# Altium footprint library Linear Technology Power Management LDO Linear Regulators.PcbLib: 77 footprints (part 3 of 5)
Each footprint in its own frame and in the unit in brackets; x right, y up, seen from the top. Pads: shape width x height; smd on the part's side, far side on the other; paste and mask are expansions set on the pad; w line width, h text height; cw(c..) or ccw(c..) is an arc to the next point about the centre after c.
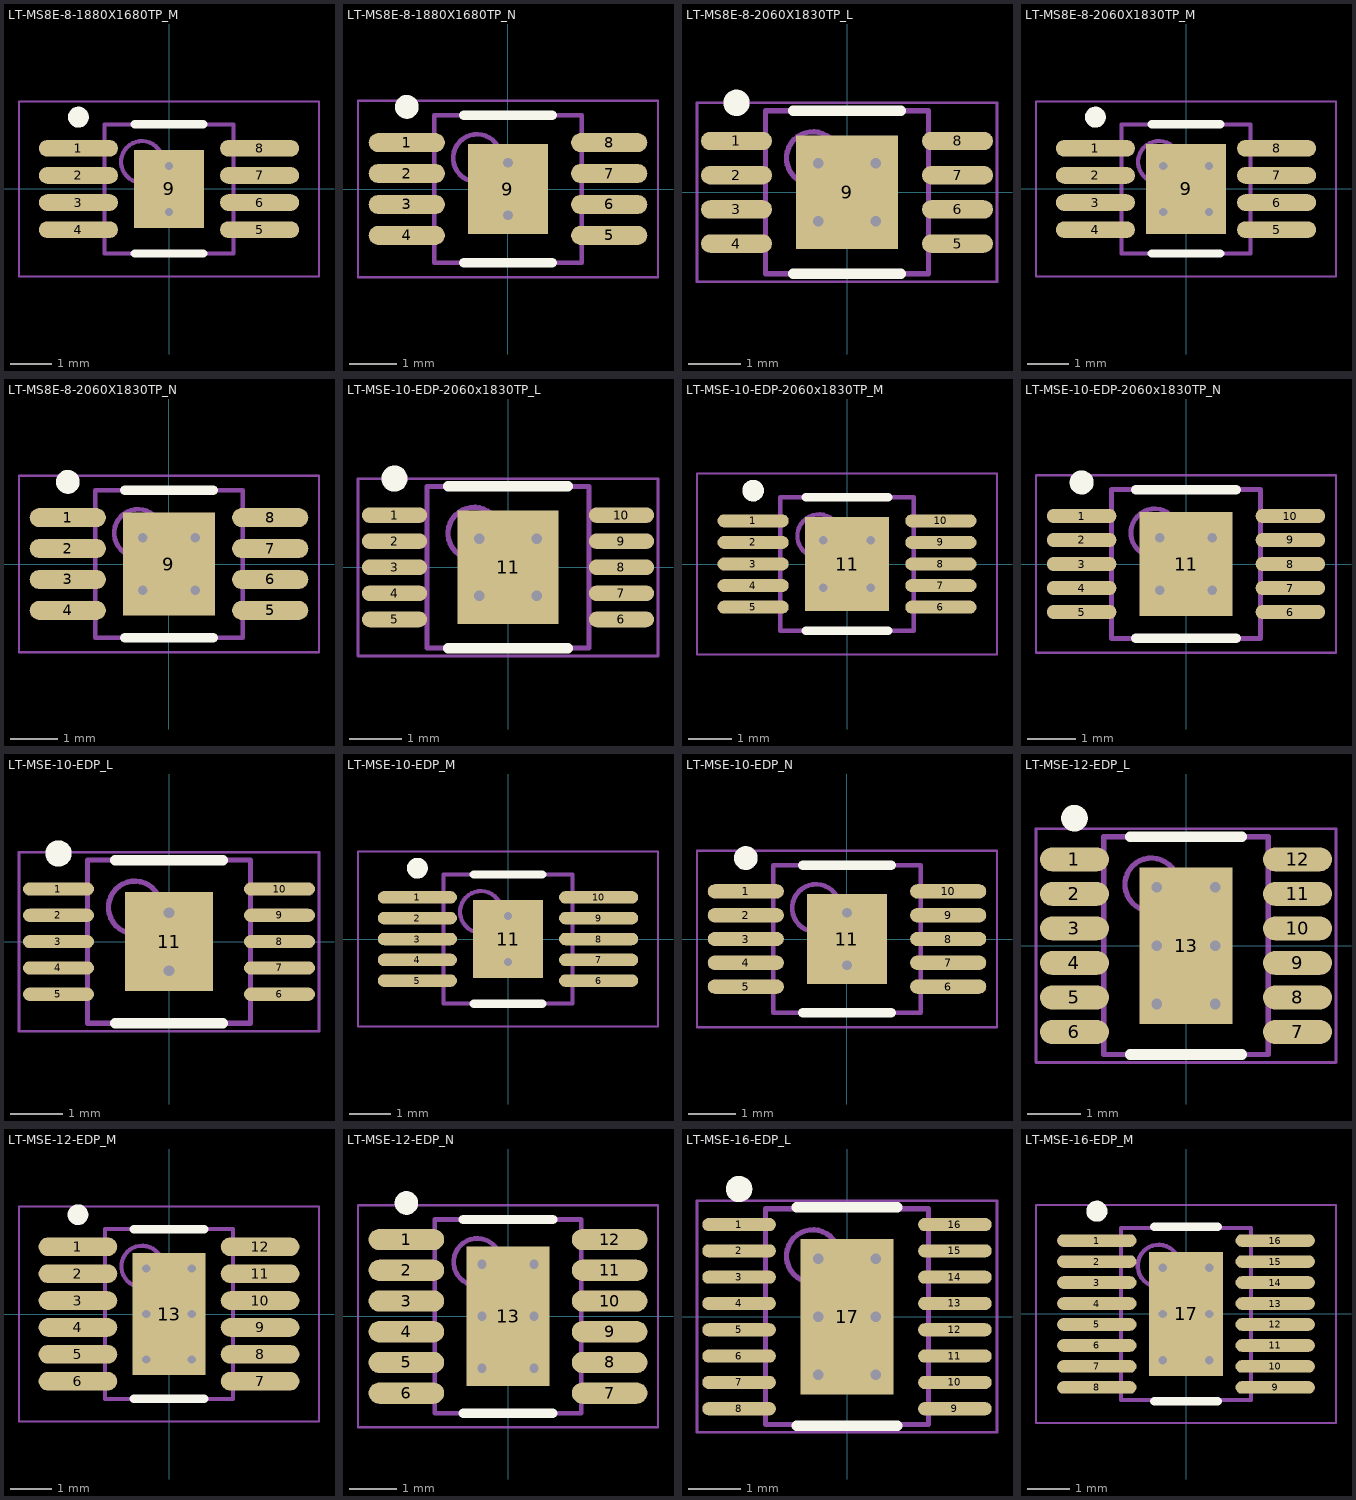
[diagram p2: the footprints below, top view; thin cyan lines are the x and y axes]

## LT-MS8E-8-1880X1680TP_M [mm] "SOP, 8-Leads, Body 3x3mm, Pitch 0.65mm, Thermal Pad 1.88x1.68mm, IPC Low Density"
height 1.1
pads (9):
  oval 1.9x0.4 smd: 1(-2.175,0.975) 2(-2.175,0.325) 3(-2.175,-0.325) 4(-2.175,-0.975) 5(2.175,-0.975) 6(2.175,-0.325) 7(2.175,0.325) 8(2.175,0.975)
  rect 1.68x1.88 smd: 9(0,0)
via 0,0.55 diameter 0.5 hole 0.2
via 0,-0.55 diameter 0.5 hole 0.2
Top Overlay:
  circle w0.25: c-2.175,1.725 r0.125
  lines w0.2: -0.825,-1.55 0.825,-1.55 ; -0.825,1.55 0.825,1.55
Mechanical 13:
  circle w0.1: c-0.65,0.65 r0.5
  lines w0.1: -1.55,-1.55 -1.55,1.55 1.55,1.55 1.55,-1.55 -1.55,-1.55
Mechanical 15:
  lines w0.05: -3.6,-2.1 -3.6,2.1 3.6,2.1 3.6,-2.1 -3.6,-2.1
  lines w0.1: -0.5,0 0.5,0 ; 0,-0.5 0,0.5
3D body: height 1.1, standoff 0.05, extent -1.55,-1.55 1.55,1.55

## LT-MS8E-8-1880X1680TP_N [mm] "SOP, 8-Leads, Body 3x3mm, Pitch 0.65mm, Thermal Pad 1.88x1.68mm, IPC Medium Density"
height 1.1
pads (9):
  oval 1.6x0.4 smd: 1(-2.125,0.975) 2(-2.125,0.325) 3(-2.125,-0.325) 4(-2.125,-0.975) 5(2.125,-0.975) 6(2.125,-0.325) 7(2.125,0.325) 8(2.125,0.975)
  rect 1.68x1.88 smd: 9(0,0)
via 0,0.55 diameter 0.5 hole 0.2
via 0,-0.55 diameter 0.5 hole 0.2
Top Overlay:
  circle w0.25: c-2.125,1.725 r0.125
  lines w0.2: -0.925,-1.55 0.925,-1.55 ; -0.925,1.55 0.925,1.55
Mechanical 13:
  circle w0.1: c-0.65,0.65 r0.5
  lines w0.1: -1.55,-1.55 -1.55,1.55 1.55,1.55 1.55,-1.55 -1.55,-1.55
Mechanical 15:
  lines w0.05: -3.15,-1.85 -3.15,1.85 3.15,1.85 3.15,-1.85 -3.15,-1.85
  lines w0.1: -0.5,0 0.5,0 ; 0,-0.5 0,0.5
3D body: height 1.1, standoff 0.05, extent -1.55,-1.55 1.55,1.55

## LT-MS8E-8-2060X1830TP_L [mm] "SOP, 8-Leads, Body 3x3mm, Pitch 0.65mm, Thermal Pad 2.162x1.932mm, IPC High Density"
height 1.1
pads (9):
  oval 1.35x0.35 smd: 1(-2.1,0.975) 2(-2.1,0.325) 3(-2.1,-0.325) 4(-2.1,-0.975) 5(2.1,-0.975) 6(2.1,-0.325) 7(2.1,0.325) 8(2.1,0.975)
  rect 1.932x2.162 smd: 9(0,0)
via 0.55,-0.55 diameter 0.5 hole 0.2
via -0.55,-0.55 diameter 0.5 hole 0.2
via 0.55,0.55 diameter 0.5 hole 0.2
via -0.55,0.55 diameter 0.5 hole 0.2
Top Overlay:
  circle w0.25: c-2.1,1.7 r0.125
  lines w0.2: -1.025,-1.55 1.025,-1.55 ; -1.025,1.55 1.025,1.55
Mechanical 13:
  circle w0.1: c-0.65,0.65 r0.5
  lines w0.1: -1.55,-1.55 1.55,-1.55 1.55,1.55 -1.55,1.55 -1.55,-1.55
Mechanical 15:
  lines w0.05: -2.85,-1.7 2.85,-1.7 2.85,1.7 -2.85,1.7 -2.85,-1.7
  lines w0.1: -0.5,0 0.5,0 ; 0,-0.5 0,0.5
3D body: height 1.1, standoff 0.05, extent -1.55,-1.55 1.55,1.55

## LT-MS8E-8-2060X1830TP_M [mm] "SOP, 8-Leads, Body 3x3mm, Pitch 0.65mm, Thermal Pad 2.162x1.932mm, IPC Low Density"
height 1.1
pads (9):
  oval 1.9x0.4 smd: 1(-2.175,0.975) 2(-2.175,0.325) 3(-2.175,-0.325) 4(-2.175,-0.975) 5(2.175,-0.975) 6(2.175,-0.325) 7(2.175,0.325) 8(2.175,0.975)
  rect 1.932x2.162 smd: 9(0,0)
via 0.55,-0.55 diameter 0.5 hole 0.2
via -0.55,-0.55 diameter 0.5 hole 0.2
via 0.55,0.55 diameter 0.5 hole 0.2
via -0.55,0.55 diameter 0.5 hole 0.2
Top Overlay:
  circle w0.25: c-2.175,1.725 r0.125
  lines w0.2: -0.825,-1.55 0.825,-1.55 ; -0.825,1.55 0.825,1.55
Mechanical 13:
  circle w0.1: c-0.65,0.65 r0.5
  lines w0.1: -1.55,-1.55 1.55,-1.55 1.55,1.55 -1.55,1.55 -1.55,-1.55
Mechanical 15:
  lines w0.05: -3.6,-2.1 3.6,-2.1 3.6,2.1 -3.6,2.1 -3.6,-2.1
  lines w0.1: -0.5,0 0.5,0 ; 0,-0.5 0,0.5
3D body: height 1.1, standoff 0.05, extent -1.55,-1.55 1.55,1.55

## LT-MS8E-8-2060X1830TP_N [mm] "SOP, 8-Leads, Body 3x3mm, Pitch 0.65mm, Thermal Pad 2.162x1.932mm, IPC Medium Density"
height 1.1
pads (9):
  oval 1.6x0.4 smd: 1(-2.125,0.975) 2(-2.125,0.325) 3(-2.125,-0.325) 4(-2.125,-0.975) 5(2.125,-0.975) 6(2.125,-0.325) 7(2.125,0.325) 8(2.125,0.975)
  rect 1.932x2.162 smd: 9(0,0)
via 0.55,-0.55 diameter 0.5 hole 0.2
via -0.55,-0.55 diameter 0.5 hole 0.2
via 0.55,0.55 diameter 0.5 hole 0.2
via -0.55,0.55 diameter 0.5 hole 0.2
Top Overlay:
  circle w0.25: c-2.125,1.725 r0.125
  lines w0.2: -0.925,-1.55 0.925,-1.55 ; -0.925,1.55 0.925,1.55
Mechanical 13:
  circle w0.1: c-0.65,0.65 r0.5
  lines w0.1: -1.55,-1.55 1.55,-1.55 1.55,1.55 -1.55,1.55 -1.55,-1.55
Mechanical 15:
  lines w0.05: -3.15,-1.85 3.15,-1.85 3.15,1.85 -3.15,1.85 -3.15,-1.85
  lines w0.1: -0.5,0 0.5,0 ; 0,-0.5 0,0.5
3D body: height 1.1, standoff 0.05, extent -1.55,-1.55 1.55,1.55

## LT-MSE-10-EDP-2060x1830TP_L [mm] "SOP, 10-Leads, Body 3.1x3.1mm, Pitch 0.5mm, Thermal Pad 2.17x1.94mm, IPC High Density"
height 1.1
pads (11):
  oval 1.25x0.3 smd: 1(-2.175,1) 2(-2.175,0.5) 3(-2.175,0) 4(-2.175,-0.5) 5(-2.175,-1) 6(2.175,-1) 7(2.175,-0.5) 8(2.175,0) 9(2.175,0.5) 10(2.175,1)
  rect 1.94x2.17 smd: 11(0,0)
via -0.55,0.55 diameter 0.5 hole 0.2
via 0.55,0.55 diameter 0.5 hole 0.2
via -0.55,-0.55 diameter 0.5 hole 0.2
via 0.55,-0.55 diameter 0.5 hole 0.2
Top Overlay:
  circle w0.25: c-2.175,1.7 r0.125
  lines w0.2: -1.15,-1.55 1.15,-1.55 ; -1.15,1.55 1.15,1.55
Mechanical 13:
  circle w0.1: c-0.65,0.65 r0.5
  lines w0.1: -1.55,-1.55 -1.55,1.55 1.55,1.55 1.55,-1.55 -1.55,-1.55
Mechanical 15:
  lines w0.05: -2.875,-1.7 -2.875,1.7 2.875,1.7 2.875,-1.7 -2.875,-1.7
  lines w0.1: -0.5,0 0.5,0 ; 0,-0.5 0,0.5
3D body: height 1.1, standoff 0.05, extent -1.55,-1.55 1.55,1.55

## LT-MSE-10-EDP-2060x1830TP_M [mm] "SOP, 10-Leads, Body 3.1x3.1mm, Pitch 0.5mm, Thermal Pad 2.17x1.94mm, IPC Low Density"
height 1.1
pads (11):
  oval 1.65x0.3 smd: 1(-2.175,1) 2(-2.175,0.5) 3(-2.175,0) 4(-2.175,-0.5) 5(-2.175,-1) 6(2.175,-1) 7(2.175,-0.5) 8(2.175,0) 9(2.175,0.5) 10(2.175,1)
  rect 1.94x2.17 smd: 11(0,0)
via 0.55,-0.55 diameter 0.5 hole 0.2
via -0.55,-0.55 diameter 0.5 hole 0.2
via 0.55,0.55 diameter 0.5 hole 0.2
via -0.55,0.55 diameter 0.5 hole 0.2
Top Overlay:
  circle w0.25: c-2.175,1.7 r0.125
  lines w0.2: -0.95,-1.55 0.95,-1.55 ; -0.95,1.55 0.95,1.55
Mechanical 13:
  circle w0.1: c-0.65,0.65 r0.5
  lines w0.1: -1.55,-1.55 1.55,-1.55 1.55,1.55 -1.55,1.55 -1.55,-1.55
Mechanical 15:
  lines w0.05: -3.475,-2.1 3.475,-2.1 3.475,2.1 -3.475,2.1 -3.475,-2.1
  lines w0.1: -0.5,0 0.5,0 ; 0,-0.5 0,0.5
3D body: height 1.1, standoff 0.05, extent -1.55,-1.55 1.55,1.55

## LT-MSE-10-EDP-2060x1830TP_N [mm] "SOP, 10-Leads, Body 3.1x3.1mm, Pitch 0.5mm, Thermal Pad 2.17x1.94mm, IPC Medium Density"
height 1.1
pads (11):
  oval 1.45x0.3 smd: 1(-2.175,1) 2(-2.175,0.5) 3(-2.175,0) 4(-2.175,-0.5) 5(-2.175,-1) 6(2.175,-1) 7(2.175,-0.5) 8(2.175,0) 9(2.175,0.5) 10(2.175,1)
  rect 1.94x2.17 smd: 11(0,0)
via -0.55,0.55 diameter 0.5 hole 0.2
via 0.55,0.55 diameter 0.5 hole 0.2
via -0.55,-0.55 diameter 0.5 hole 0.2
via 0.55,-0.55 diameter 0.5 hole 0.2
Top Overlay:
  circle w0.25: c-2.175,1.7 r0.125
  lines w0.2: -1.05,-1.55 1.05,-1.55 ; -1.05,1.55 1.05,1.55
Mechanical 13:
  circle w0.1: c-0.65,0.65 r0.5
  lines w0.1: -1.55,-1.55 -1.55,1.55 1.55,1.55 1.55,-1.55 -1.55,-1.55
Mechanical 15:
  lines w0.05: -3.125,-1.85 -3.125,1.85 3.125,1.85 3.125,-1.85 -3.125,-1.85
  lines w0.1: -0.5,0 0.5,0 ; 0,-0.5 0,0.5
3D body: height 1.1, standoff 0.05, extent -1.55,-1.55 1.55,1.55

## LT-MSE-10-EDP_L [mm] "SOP, 10-Leads, Body 3x3mm, Pitch 0.5mm, Thermal Pad 1.88x1.68mm, IPC High Density"
height 1.1
pads (11):
  oval 1.35x0.25 smd mask+0.082: 1(-2.1,1) 2(-2.1,0.5) 3(-2.1,0) 4(-2.1,-0.5) 5(-2.1,-1) 6(2.1,-1) 7(2.1,-0.5) 8(2.1,0) 9(2.1,0.5) 10(2.1,1)
  rect 1.68x1.88 smd mask+0.082: 11(0,0)
via 0,-0.55 diameter 0.5 hole 0.2
via 0,0.55 diameter 0.5 hole 0.2
Top Overlay:
  circle w0.25: c-2.1,1.675 r0.125
  lines w0.2: -1.025,-1.55 1.025,-1.55 ; -1.025,1.55 1.025,1.55
Mechanical 13:
  circle w0.1: c-0.65,0.65 r0.5
  lines w0.1: -1.55,-1.55 1.55,-1.55 1.55,1.55 -1.55,1.55 -1.55,-1.55
Mechanical 15:
  lines w0.05: -2.85,-1.7 2.85,-1.7 2.85,1.7 -2.85,1.7 -2.85,-1.7
  lines w0.1: -0.5,0 0.5,0 ; 0,-0.5 0,0.5
3D body: height 1.1, standoff 0.05, extent -1.55,-1.55 1.55,1.55

## LT-MSE-10-EDP_M [mm] "SOP, 10-Leads, Body 3x3mm, Pitch 0.5mm, Thermal Pad 1.88x1.68mm, IPC Low Density"
height 1.1
pads (11):
  oval 1.9x0.3 smd: 1(-2.175,1) 2(-2.175,0.5) 3(-2.175,0) 4(-2.175,-0.5) 5(-2.175,-1) 6(2.175,-1) 7(2.175,-0.5) 8(2.175,0) 9(2.175,0.5) 10(2.175,1)
  rect 1.68x1.88 smd: 11(0,0)
via 0,0.55 diameter 0.5 hole 0.2
via 0,-0.55 diameter 0.5 hole 0.2
Top Overlay:
  circle w0.25: c-2.175,1.7 r0.125
  lines w0.2: -0.825,-1.55 0.825,-1.55 ; -0.825,1.55 0.825,1.55
Mechanical 13:
  circle w0.1: c-0.65,0.65 r0.5
  lines w0.1: -1.55,-1.55 -1.55,1.55 1.55,1.55 1.55,-1.55 -1.55,-1.55
Mechanical 15:
  lines w0.05: -3.6,-2.1 -3.6,2.1 3.6,2.1 3.6,-2.1 -3.6,-2.1
  lines w0.1: -0.5,0 0.5,0 ; 0,-0.5 0,0.5
3D body: height 1.1, standoff 0.05, extent -1.55,-1.55 1.55,1.55

## LT-MSE-10-EDP_N [mm] "SOP, 10-Leads, Body 3x3mm, Pitch 0.5mm, Thermal Pad 1.88x1.68mm, IPC Medium Density"
height 1.1
pads (11):
  oval 1.6x0.3 smd: 1(-2.125,1) 2(-2.125,0.5) 3(-2.125,0) 4(-2.125,-0.5) 5(-2.125,-1) 6(2.125,-1) 7(2.125,-0.5) 8(2.125,0) 9(2.125,0.5) 10(2.125,1)
  rect 1.68x1.88 smd: 11(0,0)
via 0,-0.55 diameter 0.5 hole 0.2
via 0,0.55 diameter 0.5 hole 0.2
Top Overlay:
  circle w0.25: c-2.125,1.7 r0.125
  lines w0.2: -0.925,-1.55 0.925,-1.55 ; -0.925,1.55 0.925,1.55
Mechanical 13:
  circle w0.1: c-0.65,0.65 r0.5
  lines w0.1: -1.55,-1.55 1.55,-1.55 1.55,1.55 -1.55,1.55 -1.55,-1.55
Mechanical 15:
  lines w0.05: -3.15,-1.85 3.15,-1.85 3.15,1.85 -3.15,1.85 -3.15,-1.85
  lines w0.1: -0.5,0 0.5,0 ; 0,-0.5 0,0.5
3D body: height 1.1, standoff 0.05, extent -1.55,-1.55 1.55,1.55

## LT-MSE-12-EDP_L [mm] "SOP, 12-Leads, Body 4.039x3mm, Pitch 0.65mm, Thermal Pad 2.95x1.76mm, IPC High Density"
height 1.1
pads (13):
  oval 1.3x0.45 smd: 1(-2.1,1.625) 2(-2.1,0.975) 3(-2.1,0.325) 4(-2.1,-0.325) 5(-2.1,-0.975) 6(-2.1,-1.625) 7(2.1,-1.625) 8(2.1,-0.975) 9(2.1,-0.325) 10(2.1,0.325) 11(2.1,0.975) 12(2.1,1.625)
  rect 1.76x2.95 smd: 13(0,0)
via -0.55,1.1 diameter 0.5 hole 0.2
via 0.55,1.1 diameter 0.5 hole 0.2
via -0.55,0 diameter 0.5 hole 0.2
via 0.55,0 diameter 0.5 hole 0.2
via -0.55,-1.1 diameter 0.5 hole 0.2
via 0.55,-1.1 diameter 0.5 hole 0.2
Top Overlay:
  circle w0.25: c-2.1,2.4 r0.125
  lines w0.2: -1.05,-2.05 1.05,-2.05 ; -1.05,2.05 1.05,2.05
Mechanical 13:
  circle w0.1: c-0.65,1.15 r0.5
  lines w0.1: -1.55,-2.05 -1.55,2.05 1.55,2.05 1.55,-2.05 -1.55,-2.05
Mechanical 15:
  lines w0.05: -2.825,-2.2 -2.825,2.2 2.825,2.2 2.825,-2.2 -2.825,-2.2
  lines w0.1: -0.5,0 0.5,0 ; 0,-0.5 0,0.5
3D body: height 1.1, standoff 0.05, extent -1.55,-2.05 1.55,2.05

## LT-MSE-12-EDP_M [mm] "SOP, 12-Leads, Body 4.039x3mm, Pitch 0.65mm, Thermal Pad 2.95x1.76mm, IPC Low Density"
height 1.1
pads (13):
  oval 1.9x0.45 smd: 1(-2.2,1.625) 2(-2.2,0.975) 3(-2.2,0.325) 4(-2.2,-0.325) 5(-2.2,-0.975) 6(-2.2,-1.625) 7(2.2,-1.625) 8(2.2,-0.975) 9(2.2,-0.325) 10(2.2,0.325) 11(2.2,0.975) 12(2.2,1.625)
  rect 1.76x2.95 smd: 13(0,0)
via -0.55,1.1 diameter 0.5 hole 0.2
via 0.55,1.1 diameter 0.5 hole 0.2
via -0.55,0 diameter 0.5 hole 0.2
via 0.55,0 diameter 0.5 hole 0.2
via -0.55,-1.1 diameter 0.5 hole 0.2
via 0.55,-1.1 diameter 0.5 hole 0.2
Top Overlay:
  circle w0.25: c-2.2,2.4 r0.125
  lines w0.2: -0.85,-2.05 0.85,-2.05 ; -0.85,2.05 0.85,2.05
Mechanical 13:
  circle w0.1: c-0.65,1.15 r0.5
  lines w0.1: -1.55,-2.05 -1.55,2.05 1.55,2.05 1.55,-2.05 -1.55,-2.05
Mechanical 15:
  lines w0.05: -3.625,-2.6 -3.625,2.6 3.625,2.6 3.625,-2.6 -3.625,-2.6
  lines w0.1: -0.5,0 0.5,0 ; 0,-0.5 0,0.5
3D body: height 1.1, standoff 0.05, extent -1.55,-2.05 1.55,2.05

## LT-MSE-12-EDP_N [mm] "SOP, 12-Leads, Body 4.039x3mm, Pitch 0.65mm, Thermal Pad 2.95x1.76mm, IPC Medium Density"
height 1.1
pads (13):
  oval 1.6x0.45 smd: 1(-2.15,1.625) 2(-2.15,0.975) 3(-2.15,0.325) 4(-2.15,-0.325) 5(-2.15,-0.975) 6(-2.15,-1.625) 7(2.15,-1.625) 8(2.15,-0.975) 9(2.15,-0.325) 10(2.15,0.325) 11(2.15,0.975) 12(2.15,1.625)
  rect 1.76x2.95 smd: 13(0,0)
via 0.55,-1.1 diameter 0.5 hole 0.2
via -0.55,-1.1 diameter 0.5 hole 0.2
via 0.55,0 diameter 0.5 hole 0.2
via -0.55,0 diameter 0.5 hole 0.2
via 0.55,1.1 diameter 0.5 hole 0.2
via -0.55,1.1 diameter 0.5 hole 0.2
Top Overlay:
  circle w0.25: c-2.15,2.4 r0.125
  lines w0.2: -0.95,-2.05 0.95,-2.05 ; -0.95,2.05 0.95,2.05
Mechanical 13:
  circle w0.1: c-0.65,1.15 r0.5
  lines w0.1: -1.55,-2.05 1.55,-2.05 1.55,2.05 -1.55,2.05 -1.55,-2.05
Mechanical 15:
  lines w0.05: -3.175,-2.35 3.175,-2.35 3.175,2.35 -3.175,2.35 -3.175,-2.35
  lines w0.1: -0.5,0 0.5,0 ; 0,-0.5 0,0.5
3D body: height 1.1, standoff 0.05, extent -1.55,-2.05 1.55,2.05

## LT-MSE-16-EDP_L [mm] "SOP, 16-Leads, Body 4.039x3mm, Pitch 0.5mm, Thermal Pad 2.95x1.76mm, IPC High Density"
height 1.1
pads (17):
  oval 1.4x0.25 smd: 1(-2.05,1.75) 2(-2.05,1.25) 3(-2.05,0.75) 4(-2.05,0.25) 5(-2.05,-0.25) 6(-2.05,-0.75) 7(-2.05,-1.25) 8(-2.05,-1.75) 9(2.05,-1.75) 10(2.05,-1.25) 11(2.05,-0.75) 12(2.05,-0.25) 13(2.05,0.25) 14(2.05,0.75) 15(2.05,1.25) 16(2.05,1.75)
  rect 1.76x2.95 smd: 17(0,0)
via -0.55,1.1 diameter 0.5 hole 0.2
via 0.55,1.1 diameter 0.5 hole 0.2
via -0.55,0 diameter 0.5 hole 0.2
via 0.55,0 diameter 0.5 hole 0.2
via -0.55,-1.1 diameter 0.5 hole 0.2
via 0.55,-1.1 diameter 0.5 hole 0.2
Top Overlay:
  circle w0.25: c-2.05,2.425 r0.125
  lines w0.2: -0.951,-2.075 0.951,-2.075 ; -0.951,2.075 0.951,2.075
Mechanical 13:
  circle w0.1: c-0.65,1.15 r0.5
  lines w0.1: -1.55,-2.05 -1.55,2.05 1.55,2.05 1.55,-2.05 -1.55,-2.05
Mechanical 15:
  lines w0.05: -2.85,-2.2 -2.85,2.2 2.85,2.2 2.85,-2.2 -2.85,-2.2
  lines w0.1: -0.5,0 0.5,0 ; 0,-0.5 0,0.5
3D body: height 1.1, standoff 0.05, extent -1.55,-2.05 1.55,2.05

## LT-MSE-16-EDP_M [mm] "SOP, 16-Leads, Body 4.039x3mm, Pitch 0.5mm, Thermal Pad 2.95x1.76mm, IPC Low Density"
height 1.1
pads (17):
  oval 1.89x0.3 smd: 1(-2.125,1.75) 2(-2.125,1.25) 3(-2.125,0.75) 4(-2.125,0.25) 5(-2.125,-0.25) 6(-2.125,-0.75) 7(-2.125,-1.25) 8(-2.125,-1.75) 9(2.125,-1.75) 10(2.125,-1.25) 11(2.125,-0.75) 12(2.125,-0.25) 13(2.125,0.25) 14(2.125,0.75) 15(2.125,1.25) 16(2.125,1.75)
  rect 1.76x2.95 smd: 17(0,0)
via 0.55,-1.1 diameter 0.5 hole 0.2
via -0.55,-1.1 diameter 0.5 hole 0.2
via 0.55,0 diameter 0.5 hole 0.2
via -0.55,0 diameter 0.5 hole 0.2
via 0.55,1.1 diameter 0.5 hole 0.2
via -0.55,1.1 diameter 0.5 hole 0.2
Top Overlay:
  circle w0.25: c-2.125,2.45 r0.125
  lines w0.2: -0.755,-2.075 0.755,-2.075 ; -0.755,2.075 0.755,2.075
Mechanical 13:
  circle w0.1: c-0.65,1.15 r0.5
  lines w0.1: -1.55,-2.05 -1.55,2.05 1.55,2.05 1.55,-2.05 -1.55,-2.05
Mechanical 15:
  lines w0.05: -3.575,-2.6 -3.575,2.6 3.575,2.6 3.575,-2.6 -3.575,-2.6
  lines w0.1: -0.5,0 0.5,0 ; 0,-0.5 0,0.5
3D body: height 1.1, standoff 0.05, extent -1.55,-2.05 1.55,2.05